# EAGLE library part LTC1872 (library Eagle_CAD_parts)
IC REG CTRLR BOOST/SEPIC SOT23-6
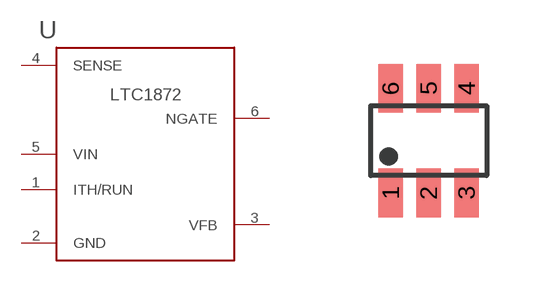
[diagram p70: symbol with the pads of TSOT-23; footprint TSOT-23]

Designator prefix U

## LTC1872 (DIGIKEY_PART_NUMBER: LTC1872ES6#TRMPBFTR-ND; MANUFACTURER_PART_NUMBER: LTC1872ES6#TRMPBF)  [TSOT-23]
1  ITH/RUN
2  GND
3  VFB
4  SENSE⁻
5  VIN
6  NGATE

## Footprint TSOT-23 (pad centres in mm)
smd 0.62 x 1.22: 1 -0.95,-1.31; 2 0,-1.31; 3 0.95,-1.31; 4 0.95,1.31; 5 0,1.31; 6 -0.95,1.31